# EAGLE library part MC34063 (library st-microelectronics)
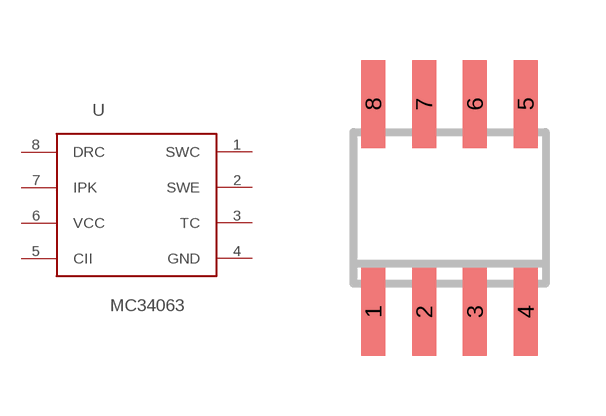
[diagram p42: symbol with the pads of SO08; footprint SO08]

Designator prefix U

## MC34063  [SO08]
1  SWC
2  SWE
3  TC
4  GND
5  CII
6  VCC
7  IPK
8  DRC

## Footprint SO08 (pad centres in mm)
SMALL OUTLINE INTEGRATED CIRCUIT body 3.9 mm/JEDEC MS-012AA
smd 0.6 x 2.2: 1 -1.905,-2.6; 2 -0.635,-2.6; 3 0.635,-2.6; 4 1.905,-2.6; 5 1.905,2.6; 6 0.635,2.6; 7 -0.635,2.6; 8 -1.905,2.6